# Altium footprint library ArduinoR3Shield.PcbLib: 1 footprints
Each footprint in its own frame and in the unit in brackets; x right, y up, seen from the top. Pads: shape width x height; smd on the part's side, far side on the other; paste and mask are expansions set on the pad; w line width, h text height; cw(c..) or ccw(c..) is an arc to the next point about the centre after c.
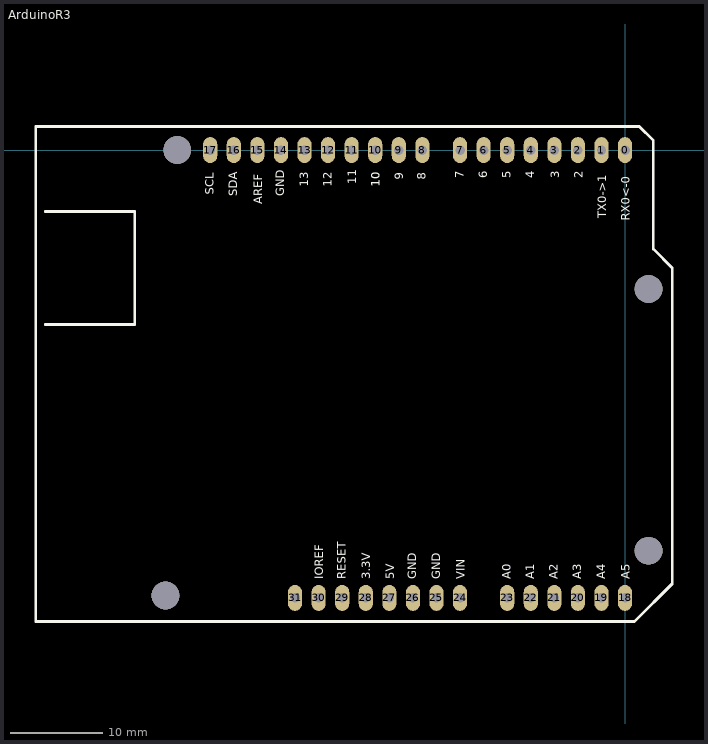
[diagram p0: the footprint, top view; thin cyan lines are the x and y axes]

## ArduinoR3 [mil] "Arduino R3 Shield"
pads (36):
  oval 60x110 hole 40: 0(0,0) 1(-100,0) 2(-200,0) 3(-300,0) 4(-400,0) 5(-500,0) 6(-600,0) 7(-700,0) 8(-860,0) 9(-960,0) 10(-1060,0) 11(-1160,0) 12(-1260,0) 13(-1360,0) 14(-1460,0) 15(-1560,0) 16(-1660,0) 17(-1760,0) 18(0,-1900) 19(-100,-1900) 20(-200,-1900) 21(-300,-1900) 22(-400,-1900) 23(-500,-1900) 24(-700,-1900) 25(-800,-1900) 26(-900,-1900) 27(-1000,-1900) 28(-1100,-1900) 29(-1200,-1900) 30(-1300,-1900) 31(-1400,-1900)
  round 118.11 hole 118.11 unplated: ""(-1950,-1890) ""(-1900,0) ""(100,-1700) ""(100,-590)
Top Overlay:
  lines w12: -2460,-740 -2080,-740 -2080,-260 -2460,-260 ; -2500,-2000 40,-2000 200,-1840 200,-500 120,-420 120,40 60,100 -2500,100 -2500,-2000
  text "IOREF" at -1280,-1820 h36
  text "RESET" at -1185,-1820 h36
  text "3.3V" at -1080,-1820 h36
  text "5V" at -980,-1820 h36
  text "GND" at -885,-1820 h36
  text "GND" at -785,-1820 h36
  text "VIN" at -680,-1820 h36
  text "A0" at -485,-1820 h36
  text "A1" at -385,-1820 h36
  text "A2" at -285,-1820 h36
  text "A3" at -185,-1820 h36
  text "A4" at -85,-1820 h36
  text "A5" at 20,-1820 h36
  text "SCL" at -1745,-190 h36
  text "SDA" at -1645,-195 h36
  text "AREF" at -1540,-230 h36
  text "GND" at -1445,-195 h36
  text "13" at -1345,-155 h36
  text "12" at -1245,-155 h36
  text "11" at -1140,-145 h36
  text "10" at -1040,-155 h36
  text "10" at -1040,-155 h36
  text "9" at -940,-125 h36
  text "8" at -845,-125 h36
  text "7" at -685,-120 h36
  text "6" at -585,-120 h36
  text "5" at -485,-120 h36
  text "4" at -385,-120 h36
  text "3" at -280,-120 h36
  text "2" at -180,-120 h36
  text "TX0->1" at -80,-290 h36
  text "RX0<-0" at 20,-300 h36
3D body "Arduino_Uno.STEP": height -32.67, standoff -617.72, extent -2755.52,-2000 200,100